# Altium footprint library 3.5inch_48P_0.8mm.PcbLib: 1 footprints
Each footprint in its own frame and in the unit in brackets; x right, y up, seen from the top. Pads: shape width x height; smd on the part's side, far side on the other; paste and mask are expansions set on the pad; w line width, h text height; cw(c..) or ccw(c..) is an arc to the next point about the centre after c.
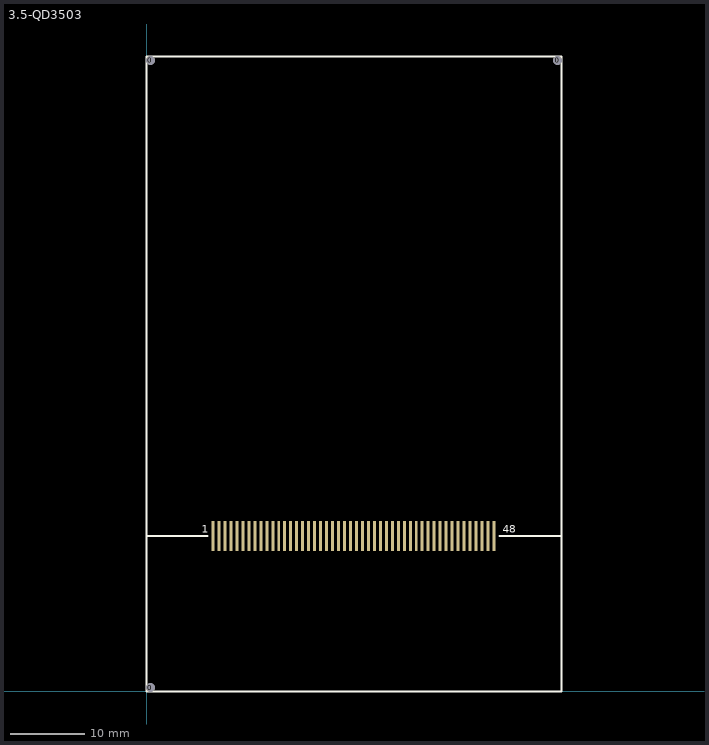
[diagram p0: the footprint, top view; thin cyan lines are the x and y axes]

## 3.5-QD3503 [mm] "3.5 TFT LCD"
pads (51):
  round 1.2 hole 1.2 unplated: 0(0.5,0.5) 0(0.5,84.46) 0(55,84.46)
  rect 0.4x4 smd: 1(8.88,20.8) 2(9.68,20.8) 3(10.48,20.8) 4(11.28,20.8) 5(12.08,20.8) 6(12.88,20.8) 7(13.68,20.8) 8(14.48,20.8) 9(15.28,20.8) 10(16.08,20.8) 11(16.88,20.8) 12(17.68,20.8) 13(18.48,20.8) 14(19.28,20.8) 15(20.08,20.8) 16(20.88,20.8) 17(21.68,20.8) 18(22.48,20.8) 19(23.28,20.8) 20(24.08,20.8) 21(24.88,20.8) 22(25.68,20.8) 23(26.48,20.8) 24(27.28,20.8) 25(28.08,20.8) 26(28.88,20.8) 27(29.68,20.8) 28(30.48,20.8) 29(31.28,20.8) 30(32.08,20.8) 31(32.88,20.8) 32(33.68,20.8) 33(34.48,20.8) 34(35.28,20.8) 35(36.08,20.8) 36(36.88,20.8) 37(37.68,20.8) 38(38.48,20.8) 39(39.28,20.8) 40(40.08,20.8) 41(40.88,20.8) 42(41.68,20.8) 43(42.48,20.8) 44(43.28,20.8) 45(44.08,20.8) 46(44.88,20.8) 47(45.68,20.8) 48(46.48,20.8)
Top Overlay:
  lines w0.254: 0.028,20.8 8.128,20.8 ; 47.232,20.8 55.5,20.8 ; 0,0 55.5,0 55.5,84.96 0,84.96 0,0
  text "1" at 7.366,21.209 h1.02
  text "48" at 47.625,21.209 h1.02